# Altium schematic symbol library TBP01R1-508-08BE.SchLib: 1 symbol
Pins are listed as number, name and electrical type; pins without a type are passive.

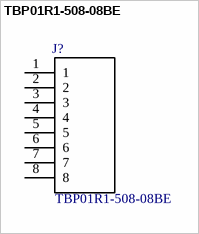
[diagram p0: symbol TBP01R1-508-08BE]

## TBP01R1-508-08BE
designator J?
SnapEDA_Link: https://www.snapeda.com/parts/TBP01R1-508-08BE/Same+Sky/view-part/?ref=snap; Check_prices: https://www.snapeda.com/parts/TBP01R1-508-08BE/Same+Sky/view-part/?ref=eda; Value: *
footprint *CUI_TBP01R1-508-08BE
pins: 1, 2, 3, 4, 5, 6, 7, 8